# Altium schematic symbol library SCH - ARM CORTEX - NXP MK64FN1M0VLQ12 LQFP144.SchLib: 1 symbol
Pins are listed as number, name and electrical type; pins without a type are passive.

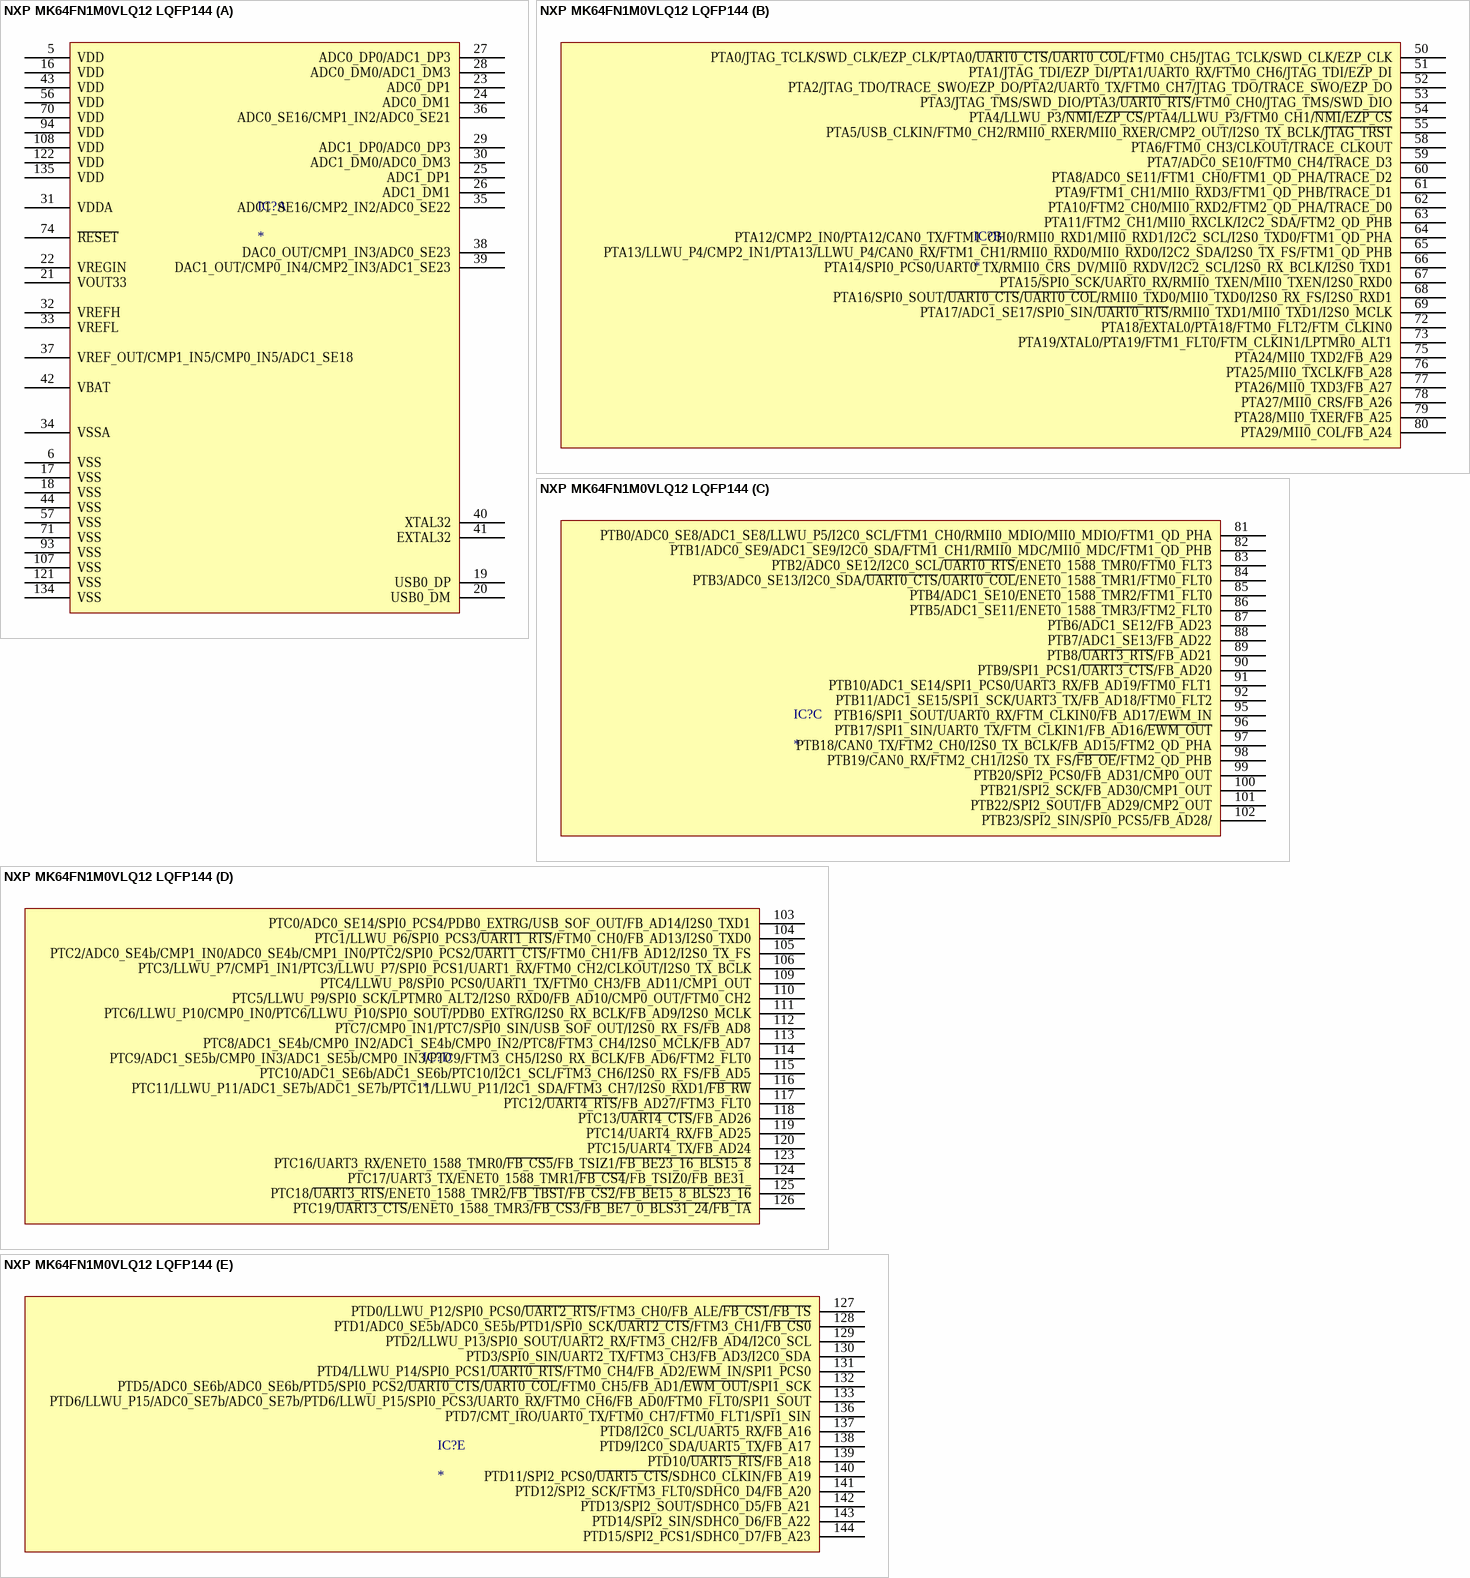
[diagram p0: symbol NXP MK64FN1M0VLQ12 LQFP144]

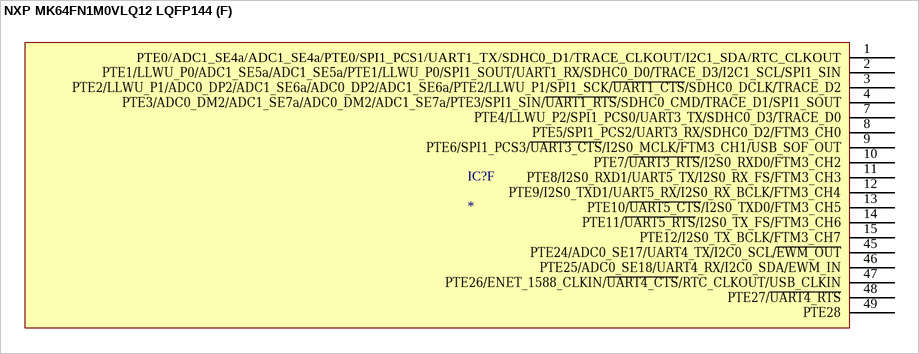
[diagram p1: symbol NXP MK64FN1M0VLQ12 LQFP144]

## NXP MK64FN1M0VLQ12 LQFP144
designator IC?
part A pins: 5 ​VDD, 6 ​VSS, 16 ​VDD, 17 ​VSS, 18 ​VSS, 19 ​USB0_DP, 20 ​USB0_DM, 21 ​VOUT33, 22 ​VREGIN, 23 ​ADC0_DP1, 24 ​ADC0_DM1, 25 ​ADC1_DP1, 26 ​ADC1_DM1, 27 ​ADC0_DP0/ADC1_DP3, 28 ​ADC0_DM0/ADC1_DM3, 29 ​ADC1_DP0/ADC0_DP3, 30 ​ADC1_DM0/ADC0_DM3, 31 ​VDDA, 32 ​VREFH, 33 ​VREFL, 34 ​VSSA, 35 ​ADC1_SE16/CMP2_IN2/ADC0_SE22, 36 ​ADC0_SE16/CMP1_IN2/ADC0_SE21, 37 ​VREF_OUT/CMP1_IN5/CMP0_IN5/ADC1_SE18, 38 ​DAC0_OUT/CMP1_IN3/ADC0_SE23, 39 ​DAC1_OUT/CMP0_IN4/CMP2_IN3/ADC1_SE23, 40 ​XTAL32, 41 ​EXTAL32, 42 ​VBAT, 43 ​VDD, 44 ​VSS, 56 ​VDD, 57 ​VSS, 70 ​VDD, 71 ​VSS, 74 ​~{RESET}, 93 ​VSS, 94 ​VDD, 107 ​VSS, 108 ​VDD, 121 ​VSS, 122 ​VDD, 134 ​VSS, 135 ​VDD
part B pins: 50 ​PTA0/JTAG_TCLK/SWD_CLK/EZP_CLK/PTA0/~{UART0_CTS}/~{UART0_COL}/FTM0_CH5/JTAG_TCLK/SWD_CLK/EZP_CLK, 51 ​PTA1/JTAG_TDI/EZP_DI/PTA1/UART0_RX/FTM0_CH6/JTAG_TDI/EZP_DI, 52 ​PTA2/JTAG_TDO/TRACE_SWO/EZP_DO/PTA2/UART0_TX/FTM0_CH7/JTAG_TDO/TRACE_SWO/EZP_DO, 53 ​PTA3/JTAG_TMS/SWD_DIO/PTA3/~{UART0_RTS}/FTM0_CH0/JTAG_TMS/SWD_DIO, 54 ​PTA4/LLWU_P3/~{NMI}/~{EZP_CS}/PTA4/LLWU_P3/FTM0_CH1/~{NMI}/~{EZP_CS}, 55 ​PTA5/USB_CLKIN/FTM0_CH2/RMII0_RXER/MII0_RXER/CMP2_OUT/I2S0_TX_BCLK/~{JTAG_TRST}, 58 ​PTA6/FTM0_CH3/CLKOUT/TRACE_CLKOUT, 59 ​PTA7/ADC0_SE10/FTM0_CH4/TRACE_D3, 60 ​PTA8/ADC0_SE11/FTM1_CH0/FTM1_QD_PHA/TRACE_D2, 61 ​PTA9/FTM1_CH1/MII0_RXD3/FTM1_QD_PHB/TRACE_D1, 62 ​PTA10/FTM2_CH0/MII0_RXD2/FTM2_QD_PHA/TRACE_D0, 63 ​PTA11/FTM2_CH1/MII0_RXCLK/I2C2_SDA/FTM2_QD_PHB, 64 ​PTA12/CMP2_IN0/PTA12/CAN0_TX/FTM1_CH0/RMII0_RXD1/MII0_RXD1/I2C2_SCL/I2S0_TXD0/FTM1_QD_PHA, 65 ​PTA13/LLWU_P4/CMP2_IN1/PTA13/LLWU_P4/CAN0_RX/FTM1_CH1/RMII0_RXD0/MII0_RXD0/I2C2_SDA/I2S0_TX_FS/FTM1_QD_PHB, 66 ​PTA14/SPI0_PCS0/UART0_TX/RMII0_CRS_DV/MII0_RXDV/I2C2_SCL/I2S0_RX_BCLK/I2S0_TXD1, 67 ​PTA15/SPI0_SCK/UART0_RX/RMII0_TXEN/MII0_TXEN/I2S0_RXD0, 68 ​PTA16/SPI0_SOUT/~{UART0_CTS}/~{UART0_COL}/RMII0_TXD0/MII0_TXD0/I2S0_RX_FS/I2S0_RXD1, 69 ​PTA17/ADC1_SE17/SPI0_SIN/~{UART0_RTS}/RMII0_TXD1/MII0_TXD1/I2S0_MCLK, 72 ​PTA18/EXTAL0/PTA18/FTM0_FLT2/FTM_CLKIN0, 73 ​PTA19/XTAL0/PTA19/FTM1_FLT0/FTM_CLKIN1/LPTMR0_ALT1, 75 ​PTA24/MII0_TXD2/FB_A29, 76 ​PTA25/MII0_TXCLK/FB_A28, 77 ​PTA26/MII0_TXD3/FB_A27, 78 ​PTA27/MII0_CRS/FB_A26, 79 ​PTA28/MII0_TXER/FB_A25, 80 ​PTA29/MII0_COL/FB_A24
part C pins: 81 ​PTB0/ADC0_SE8/ADC1_SE8/LLWU_P5/I2C0_SCL/FTM1_CH0/RMII0_MDIO/MII0_MDIO/FTM1_QD_PHA, 82 ​PTB1/ADC0_SE9/ADC1_SE9/I2C0_SDA/FTM1_CH1/RMII0_MDC/MII0_MDC/FTM1_QD_PHB, 83 ​PTB2/ADC0_SE12/I2C0_SCL/~{UART0_RTS}/ENET0_1588_TMR0/FTM0_FLT3, 84 ​PTB3/ADC0_SE13/I2C0_SDA/~{UART0_CTS}/~{UART0_COL}/ENET0_1588_TMR1/FTM0_FLT0, 85 ​PTB4/ADC1_SE10/ENET0_1588_TMR2/FTM1_FLT0, 86 ​PTB5/ADC1_SE11/ENET0_1588_TMR3/FTM2_FLT0, 87 ​PTB6/ADC1_SE12/FB_AD23, 88 ​PTB7/ADC1_SE13/FB_AD22, 89 ​PTB8/~{UART3_RTS}/FB_AD21, 90 ​PTB9/SPI1_PCS1/~{UART3_CTS}/FB_AD20, 91 ​PTB10/ADC1_SE14/SPI1_PCS0/UART3_RX/FB_AD19/FTM0_FLT1, 92 ​PTB11/ADC1_SE15/SPI1_SCK/UART3_TX/FB_AD18/FTM0_FLT2, 95 ​PTB16/SPI1_SOUT/UART0_RX/FTM_CLKIN0/FB_AD17/EWM_IN, 96 ​PTB17/SPI1_SIN/UART0_TX/FTM_CLKIN1/FB_AD16/~{EWM_OUT}, 97 ​PTB18/CAN0_TX/FTM2_CH0/I2S0_TX_BCLK/FB_AD15/FTM2_QD_PHA, 98 ​PTB19/CAN0_RX/FTM2_CH1/I2S0_TX_FS/~{FB_OE}/FTM2_QD_PHB, 99 ​PTB20/SPI2_PCS0/FB_AD31/CMP0_OUT, 100 ​PTB21/SPI2_SCK/FB_AD30/CMP1_OUT, 101 ​PTB22/SPI2_SOUT/FB_AD29/CMP2_OUT, 102 ​PTB23/SPI2_SIN/SPI0_PCS5/FB_AD28/
part D pins: 103 ​PTC0/ADC0_SE14/SPI0_PCS4/PDB0_EXTRG/USB_SOF_OUT/FB_AD14/I2S0_TXD1, 104 ​PTC1/LLWU_P6/SPI0_PCS3/~{UART1_RTS}/FTM0_CH0/FB_AD13/I2S0_TXD0, 105 ​PTC2/ADC0_SE4b/CMP1_IN0/ADC0_SE4b/CMP1_IN0/PTC2/SPI0_PCS2/~{UART1_CTS}/FTM0_CH1/FB_AD12/I2S0_TX_FS, 106 ​PTC3/LLWU_P7/CMP1_IN1/PTC3/LLWU_P7/SPI0_PCS1/UART1_RX/FTM0_CH2/CLKOUT/I2S0_TX_BCLK, 109 ​PTC4/LLWU_P8/SPI0_PCS0/UART1_TX/FTM0_CH3/FB_AD11/CMP1_OUT, 110 ​PTC5/LLWU_P9/SPI0_SCK/LPTMR0_ALT2/I2S0_RXD0/FB_AD10/CMP0_OUT/FTM0_CH2, 111 ​PTC6/LLWU_P10/CMP0_IN0/PTC6/LLWU_P10/SPI0_SOUT/PDB0_EXTRG/I2S0_RX_BCLK/FB_AD9/I2S0_MCLK, 112 ​PTC7/CMP0_IN1/PTC7/SPI0_SIN/USB_SOF_OUT/I2S0_RX_FS/FB_AD8, 113 ​PTC8/ADC1_SE4b/CMP0_IN2/ADC1_SE4b/CMP0_IN2/PTC8/FTM3_CH4/I2S0_MCLK/FB_AD7, 114 ​PTC9/ADC1_SE5b/CMP0_IN3/ADC1_SE5b/CMP0_IN3/PTC9/FTM3_CH5/I2S0_RX_BCLK/FB_AD6/FTM2_FLT0, 115 ​PTC10/ADC1_SE6b/ADC1_SE6b/PTC10/I2C1_SCL/FTM3_CH6/I2S0_RX_FS/FB_AD5, 116 ​PTC11/LLWU_P11/ADC1_SE7b/ADC1_SE7b/PTC11/LLWU_P11/I2C1_SDA/FTM3_CH7/I2S0_RXD1/~{FB_RW}, 117 ​PTC12/~{UART4_RTS}/FB_AD27/FTM3_FLT0, 118 ​PTC13/~{UART4_CTS}/FB_AD26, 119 ​PTC14/UART4_RX/FB_AD25, 120 ​PTC15/UART4_TX/FB_AD24, 123 ​PTC16/UART3_RX/ENET0_1588_TMR0/~{FB_CS5}/FB_TSIZ1/~{FB_BE23_16_BLS15_8}, 124 ​PTC17/UART3_TX/ENET0_1588_TMR1/~{FB_CS4}/FB_TSIZ0/FB_BE31_, 125 ​PTC18/~{UART3_RTS}/ENET0_1588_TMR2/~{FB_TBST}/~{FB_CS2}/~{FB_BE15_8_BLS23_16}, 126 ​PTC19/~{UART3_CTS}/ENET0_1588_TMR3/~{FB_CS3}/~{FB_BE7_0_BLS31_24}/~{FB_TA}
part E pins: 127 ​PTD0/LLWU_P12/SPI0_PCS0/~{UART2_RTS}/FTM3_CH0/FB_ALE/~{FB_CS1}/~{FB_TS}, 128 ​PTD1/ADC0_SE5b/ADC0_SE5b/PTD1/SPI0_SCK/~{UART2_CTS}/FTM3_CH1/~{FB_CS0}, 129 ​PTD2/LLWU_P13/SPI0_SOUT/UART2_RX/FTM3_CH2/FB_AD4/I2C0_SCL, 130 ​PTD3/SPI0_SIN/UART2_TX/FTM3_CH3/FB_AD3/I2C0_SDA, 131 ​PTD4/LLWU_P14/SPI0_PCS1/~{UART0_RTS}/FTM0_CH4/FB_AD2/EWM_IN/SPI1_PCS0, 132 ​PTD5/ADC0_SE6b/ADC0_SE6b/PTD5/SPI0_PCS2/~{UART0_CTS}/~{UART0_COL}/FTM0_CH5/FB_AD1/~{EWM_OUT}/SPI1_SCK, 133 ​PTD6/LLWU_P15/ADC0_SE7b/ADC0_SE7b/PTD6/LLWU_P15/SPI0_PCS3/UART0_RX/FTM0_CH6/FB_AD0/FTM0_FLT0/SPI1_SOUT, 136 ​PTD7/CMT_IRO/UART0_TX/FTM0_CH7/FTM0_FLT1/SPI1_SIN, 137 ​PTD8/I2C0_SCL/UART5_RX/FB_A16, 138 ​PTD9/I2C0_SDA/UART5_TX/FB_A17, 139 ​PTD10/~{UART5_RTS}/FB_A18, 140 ​PTD11/SPI2_PCS0/~{UART5_CTS}/SDHC0_CLKIN/FB_A19, 141 ​PTD12/SPI2_SCK/FTM3_FLT0/SDHC0_D4/FB_A20, 142 ​PTD13/SPI2_SOUT/SDHC0_D5/FB_A21, 143 ​PTD14/SPI2_SIN/SDHC0_D6/FB_A22, 144 ​PTD15/SPI2_PCS1/SDHC0_D7/FB_A23
part F pins: 1 PTE0/ADC1_SE4a/ADC1_SE4a/PTE0/SPI1_PCS1/UART1_TX/SDHC0_D1/TRACE_CLKOUT/I2C1_SDA/RTC_CLKOUT, 2 ​PTE1/LLWU_P0/ADC1_SE5a/ADC1_SE5a/PTE1/LLWU_P0/SPI1_SOUT/UART1_RX/SDHC0_D0/TRACE_D3/I2C1_SCL/SPI1_SIN, 3 ​PTE2/LLWU_P1/ADC0_DP2/ADC1_SE6a/ADC0_DP2/ADC1_SE6a/PTE2/LLWU_P1/SPI1_SCK/~{UART1_CTS}/SDHC0_DCLK/TRACE_D2, 4 ​PTE3/ADC0_DM2/ADC1_SE7a/ADC0_DM2/ADC1_SE7a/PTE3/SPI1_SIN/~{UART1_RTS}/SDHC0_CMD/TRACE_D1/SPI1_SOUT, 7 ​PTE4/LLWU_P2/SPI1_PCS0/UART3_TX/SDHC0_D3/TRACE_D0, 8 ​PTE5/SPI1_PCS2/UART3_RX/SDHC0_D2/FTM3_CH0, 9 ​PTE6/SPI1_PCS3/~{UART3_CTS}/I2S0_MCLK/FTM3_CH1/USB_SOF_OUT, 10 ​PTE7/~{UART3_RTS}/I2S0_RXD0/FTM3_CH2, 11 ​PTE8/I2S0_RXD1/UART5_TX/I2S0_RX_FS/FTM3_CH3, 12 ​PTE9/I2S0_TXD1/UART5_RX/I2S0_RX_BCLK/FTM3_CH4, 13 ​PTE10/~{UART5_CTS}/I2S0_TXD0/FTM3_CH5, 14 ​PTE11/~{UART5_RTS}/I2S0_TX_FS/FTM3_CH6, 15 ​PTE12/I2S0_TX_BCLK/FTM3_CH7, 45 ​PTE24/ADC0_SE17/UART4_TX/I2C0_SCL/~{EWM_OUT}, 46 ​PTE25/ADC0_SE18/UART4_RX/I2C0_SDA/EWM_IN, 47 ​PTE26/ENET_1588_CLKIN/~{UART4_CTS}/RTC_CLKOUT/USB_CLKIN, 48 ​PTE27/~{UART4_RTS}, 49 ​PTE28